# Altium footprint library adafruit.PCBLIB: 40 footprints (part 3 of 3)
Each footprint in its own frame and in the unit in brackets; x right, y up, seen from the top. Pads: shape width x height; smd on the part's side, far side on the other; paste and mask are expansions set on the pad; w line width, h text height; cw(c..) or ccw(c..) is an arc to the next point about the centre after c.
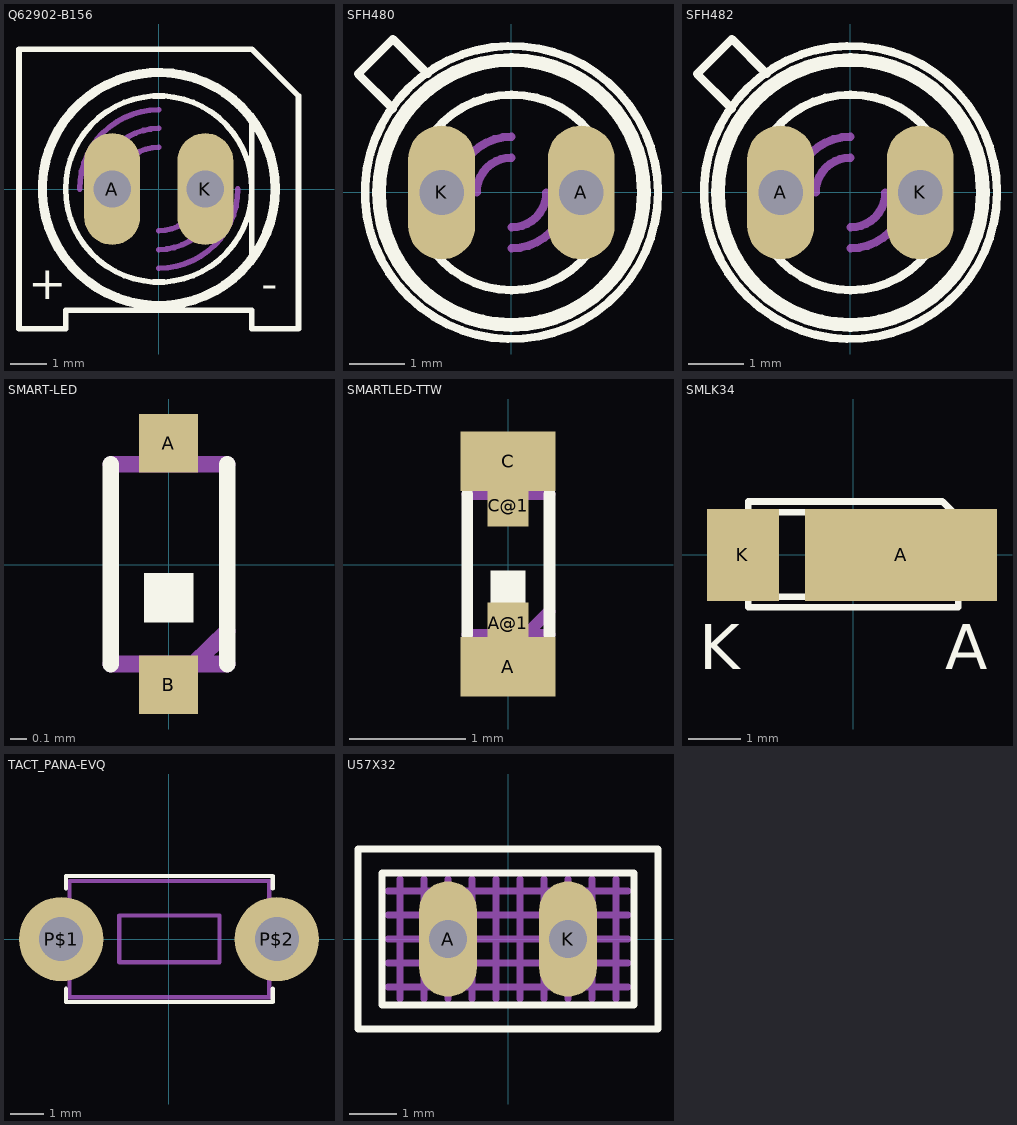
[diagram p2: the footprints below, top view; thin cyan lines are the x and y axes]

## Q62902-B156 [mil]
pads (2):
  oval 60x120 hole 40: A(-50,0) K(50,0)
Top Overlay:
  circle w6: c0,0 r100
  circle w10: c0,0 r125
  lines w6: 100,-75 100,75 ; -150,-150 -150,150 100,150 150,100 150,-150 100,-150 100,-130 -100,-130 -100,-150 -150,-150
  text "+" at -140,-130 h62
  text "-" at 110,-130 h62
Mechanical 16:
  lines w6: -85,0 cw(c0,0) 0,85 ; -65,0 cw(c0,0) 0,65 ; -45,0 cw(c0,0) 0,45 ; 0,-85 ccw(c0,0) 85,0 ; 0,-65 ccw(c0,0) 65,0 ; 0,-45 ccw(c0,0) 45,0

## SFH480 [mil]
pads (2):
  oval 48x96 hole 32: A(50,0) K(-50,0)
Top Overlay:
  circle w6: c0,0 r105
  circle w10: c0,0 r95
  lines w6: -85,60 -110,85 -85,110 -60,85 ; -60.46,-35.27 ccw(c0,0) 0,-70 ccw(c0.27,0.47) 61,-35.27 ; -60.46,36 cw(c-0.63,0.36) 0,70 cw(c0.9,-0.1) 61,36
Mechanical 16:
  lines w6: -59.61,-36.68 cw(c0,0) -70,0 cw(c0.72,0.21) -59.06,38 ; -40,0 cw(c0,0) 0,40 ; -25,0 cw(c0,0) 0,25 ; 0,-40 ccw(c0,0) 40,0 ; 0,-25 ccw(c0,0) 25,0 ; 60,-37.58 ccw(c0.47,-1.62) 70,0 ccw(c-0.36,0.83) 60,37

## SFH482 [mil]
pads (2):
  oval 48x96 hole 32: A(-50,0) K(50,0)
Top Overlay:
  circle w6: c0,0 r105
  circle w10: c0,0 r95
  lines w6: -85,60 -110,85 -85,110 -60,85 ; -60.46,-35.27 ccw(c0,0) 0,-70 ccw(c0.27,0.47) 61,-35.27 ; -60.46,36 cw(c-0.63,0.36) 0,70 cw(c0.9,-0.1) 61,36
Mechanical 16:
  lines w6: -59.61,-36.68 cw(c0,0) -70,0 cw(c0.72,0.21) -59.06,38 ; -40,0 cw(c0,0) 0,40 ; -25,0 cw(c0,0) 0,25 ; 0,-40 ccw(c0,0) 40,0 ; 0,-25 ccw(c0,0) 25,0 ; 60,-37.58 ccw(c0.47,-1.62) 70,0 ccw(c-0.36,0.83) 60,37

## SMART-LED [mil]
pads (2):
  rect 14x14 smd: A(0,29) B(0,-28.54)
Top Overlay:
  rectangle: -5.91,-13.78 6,-1.97
  lines w4: -13.78,-23.62 -13.78,24 ; 14,-23.62 14,24
Mechanical 16:
  rectangle: -5.91,24 6,34
  rectangle: -5.91,-33.46 6,-23.62
  lines w4: -13.78,-23.62 6,-23.62 ; -13.78,24 14,24 ; 14,-23.62 6,-23.62 ; 14,-15.75 6,-23.62

## SMARTLED-TTW [mil]
pads (4):
  rect 32x20 smd: A(0,-34.45) C(0,35)
  rect 14x14 smd: A@1(0,-19.68) C@1(0,20)
Top Overlay:
  rectangle: -5.91,-13.78 6,-1.97
  lines w4: -13.78,-23.62 -13.78,24 ; 14,-23.62 14,24
Top Paste:
  rectangle: -8.86,12 9,39
  region: 9,-11.81 -8.86,-11.81 -8.86,-38.39 9,-38.39
Top Solder:
  rectangle: -6.89,13 7,28
  region: 7,-12.8 -6.89,-12.8 -6.89,-27.56 7,-27.56
Mechanical 16:
  rectangle: -5.91,24 6,34
  rectangle: -5.91,-33.46 6,-23.62
  lines w4: -13.78,-23.62 6,-23.62 ; -13.78,24 14,24 ; 14,-23.62 6,-23.62 ; 14,-15.75 6,-23.62

## SMLK34 [mil]
pads (2):
  rect 144x69 smd: A(36,0)
  rect 54x69 smd: K(-82.68,0)
Top Overlay:
  lines w5: -78.74,-39.37 79,-39.37 79,28 67,40 -78.74,40 -78.74,-39.37 ; -70.87,-31.5 -70.87,32 63,32 71,24 71,-31.5 -70.87,-31.5
  text "A" at 69,-85.75 h34
  text "K" at -115.67,-85.75 h34

## TACT_PANA-EVQ [mil]
pads (2):
  round 100 hole 52: P$1(-127.95,0) P$2(128,0)
Top Overlay:
  lines w5: -122.05,-59.06 -122.05,-74.8 123,-74.8 123,-59.06 ; -122.05,60 -122.05,75 123,75 123,60
Mechanical 16:
  lines w5: -118.11,-19.68 -118.11,-68.9 119,-68.9 119,-19.68 ; -118.11,-19.68 -118.11,20 ; -118.11,-19.68 -155.51,-19.68 -155.51,20 -118.11,20 ; -118.11,20 -118.11,69 119,69 119,20 ; 119,-19.68 119,20 ; 119,-19.68 156,-19.68 156,20 119,20 ; -59.06,-27.56 60,-27.56 60,28 -59.06,28 -59.06,-27.56

## U57X32 [mil]
pads (2):
  oval 48x96 hole 32: A(-50,0) K(50,0)
Top Overlay:
  lines w6: -125,-75 125,-75 125,75 -125,75 -125,-75 ; -105,-55 105,-55 105,55 -105,55 -105,-55
Mechanical 16:
  lines w6: -100,-40 100,-40 ; -100,-20 100,-20 ; -100,0 100,0 ; -100,20 100,20 ; -100,40 100,40 ; -90,-50 -90,50 ; -70,-50 -70,50 ; -50,-50 -50,50 ; -30,-50 -30,50 ; -10,-50 -10,50 ; 10,-50 10,50 ; 30,-50 30,50 ; 50,-50 50,50 ; 70,-50 70,50 ; 90,-50 90,50